# EAGLE library part ACRK-16-06-X-X-B1-X-X (library hsk_2012)
2x 11.6A / pin + 8x 1.0A Achtung, Pinbelegung prüfen, evtl. --S-- Variante benutzen
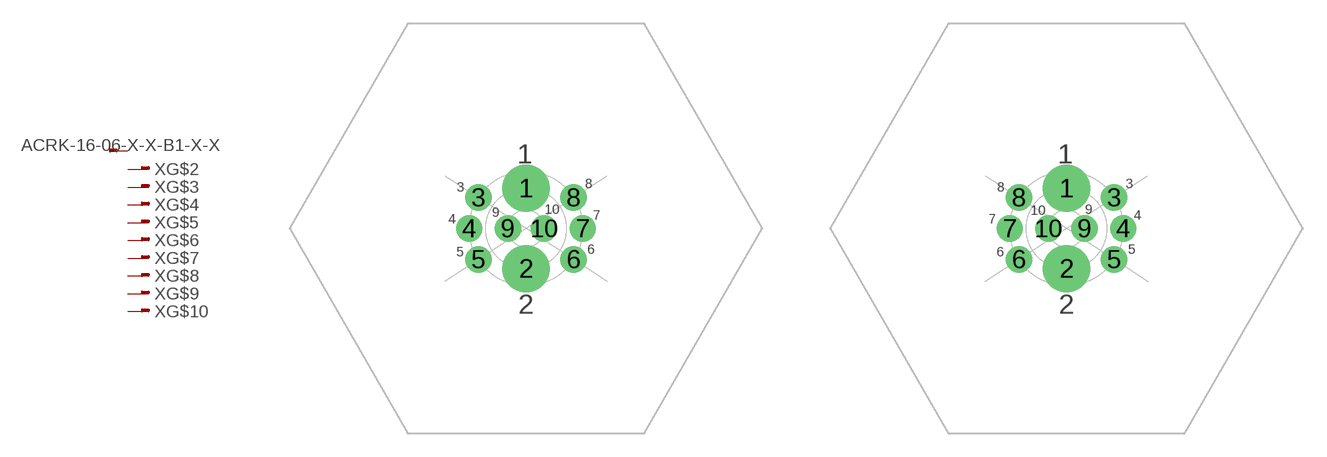
[diagram p42: symbol with the pads of ACRK-16-06-X-S-B1-X-X; footprints ACRK-16-06-X-S-B1-X-X, ACRK-16-06-X-T-B1-X-X]

Designator prefix X; gates G$1=SINGLE_PAD G$2=CON G$3=CON G$4=CON G$5=CON G$6=CON G$7=CON G$8=CON G$9=CON G$10=CON

## ACRK-16-06-X-X-B1-X-X_S  [ACRK-16-06-X-S-B1-X-X]
1  G$1:1
2  G$2:CON
3  G$3:CON
4  G$4:CON
5  G$5:CON
6  G$6:CON
7  G$7:CON
8  G$8:CON
9  G$9:CON
10  G$10:CON

## ACRK-16-06-X-X-B1-X-X_T  [ACRK-16-06-X-T-B1-X-X]
Pads as for ACRK-16-06-X-S-B1-X-X

## Footprint ACRK-16-06-X-S-B1-X-X (pad centres in mm)
drill 1.7 pad 3: 1 0,2.55; 2 0,-2.55
drill 0.9 pad 1.676: 3 -3.02,1.96; 4 -3.6,0; 5 -3.02,-1.96; 6 3.02,-1.96; 7 3.6,0; 8 3.02,1.96; 9 -1.15,0; 10 1.15,0

## Footprint ACRK-16-06-X-T-B1-X-X (pad centres in mm)
drill 1.7 pad 3: 1 0,2.55; 2 0,-2.55
drill 0.9 pad 1.676: 3 3.02,1.96; 4 3.6,0; 5 3.02,-1.96; 6 -3.02,-1.96; 7 -3.6,0; 8 -3.02,1.96; 9 1.15,0; 10 -1.15,0